# Altium schematic symbol library CustomizedLib.SchLib: 19 symbols
Pins are listed as number, name and electrical type; pins without a type are passive.

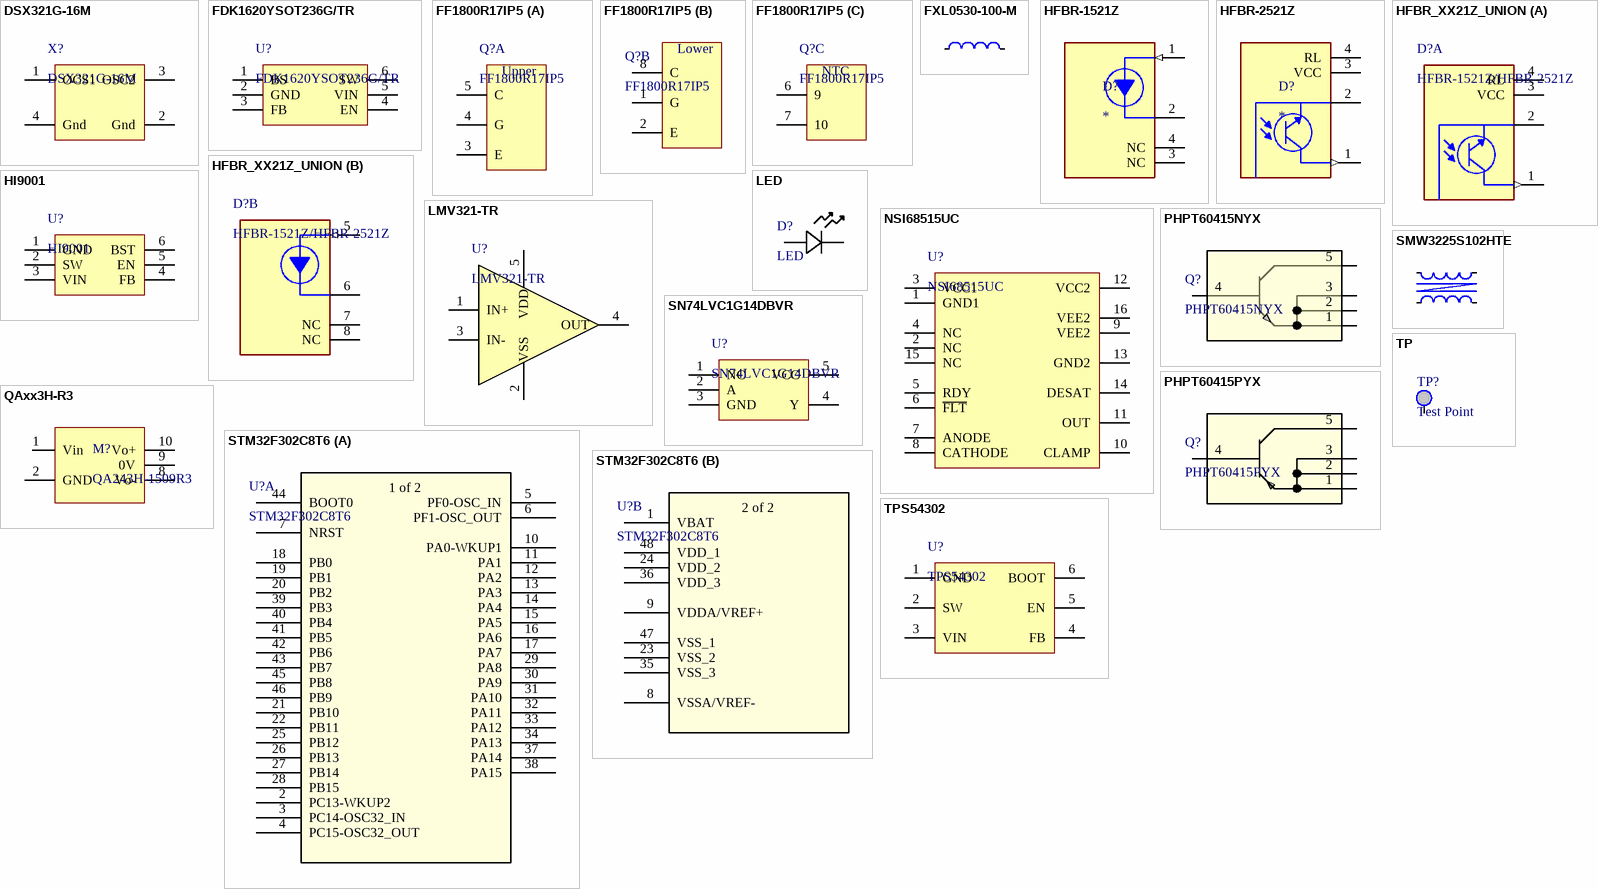
[diagram p0: symbols DSX321G-16M to TPS54302]

## DSX321G-16M
designator X?
无源晶振
footprint SMD3225-4 (Diode, Dual Flat No-Lead, 0.75 mm Pitch, 4 pin; 1.20 mm L X 0.775 mm W X 0.40 mm H body)
pins: 1 OCS1, 2 Gnd, 3 OSC2, 4 Gnd

## FDK1620YSOT236G/TR
designator U?
DC/DC Converter
footprint SOT23-6 (Small Outline Transistor, SOT-23 Type, 0.95 mm pitch; 6 pin, 2.92 mm L X 1.60 mm W X 1.25 mm H body)
pins: 1 BS, 2 GND, 3 FB, 4 EN, 5 VIN, 6 SW

## FF1800R17IP5
designator Q?
IGBT Module
footprint FF1800R17IP5
part A pins: 3 E, 4 G, 5 C
part B pins: 1 G, 2 E, 8 C
part C pins: 6 9, 7 10
part A text: Upper
part B text: Lower
part C text: NTC

## FXL0530-100-M
designator L?, comment 10uH  (value not drawn)
Manufacturer: cjiang(长江微电); Symbol: FXL0530-100-M; Add into BOM: yes; Tolerance: ±20%; Rated Current: 3.2A; Saturation Current (Isat): 3.5A; DC Resistance (DCR): 125mΩ; Type: 一体成型电感; Device: FXL0530-100-M; LCSC Part Name: 10uH ±20% 3.5A; Supplier Part: C177248; Manufacturer Part: FXL0530-100-M; Supplier Footprint: SMD,5.2x5.4mm; JLCPCB Part Class: Extended Part; Datasheet: https://atta.szlcsc.com/upload/public/pdf/source/20240426/3189EA8206330E2108542F9E34E540E7.pdf; Supplier: LCSC; Convert to PCB: yes; Value: 10uH
footprint L0530 (Diode, Dual Flat No-Lead, 2 pin; 1.00 mm L X 0.60 mm W X 0.50 mm H body)
pins: 1, 2

## HFBR-1521Z
designator D?
Versatile Link Fiber-Optic Connection; MF: Broadcom Limited; MP: HFBR-2521Z; SnapEDA_Link: https://www.snapeda.com/parts/HFBR-2521Z/Broadcom/view-part/?ref=snap; Package: None; Value: *; Check_prices: https://www.snapeda.com/parts/HFBR-2521Z/Broadcom/view-part/?ref=eda
footprint HFBR_1521Z (Footprint not found)
pins: 1 VO (in), 2 GROUND (power), 3 NC (power), 4 NC

## HFBR-2521Z
designator D?
Versatile Link Fiber-Optic Connection; MF: Broadcom Limited; MP: HFBR-2521Z; SnapEDA_Link: https://www.snapeda.com/parts/HFBR-2521Z/Broadcom/view-part/?ref=snap; Package: None; Value: *; Check_prices: https://www.snapeda.com/parts/HFBR-2521Z/Broadcom/view-part/?ref=eda
footprint HFBR_2521Z (Footprint not found)
pins: 1 VO (out), 2 GROUND (power), 3 VCC (power), 4 RL

## HFBR_XX21Z_UNION
designator D?, comment HFBR-1521Z/HFBR-2521Z
Versatile Link Fiber-Optic Connection
footprint HFBR_XX21Z_UNION
part A pins: 1 VO (out), 2 GROUND (power), 3 VCC (power), 4 RL
part B pins: 5 VO (in), 6 GROUND (power), 7 NC, 8 NC (power)

## HI9001
designator U?
DC/DC converter controller
footprint SOT23-6 (Small Outline Transistor, SOT-23 Type, 0.95 mm pitch; 3 pin, 2.90 mm L X 1.30 mm W X 1.10 mm H body)
pins: 1 GND, 2 SW, 3 VIN, 4 FB, 5 EN, 6 BST

## LED
designator D?
No Description Available; Manufacturer_Name: ams OSRAM; Manufacturer_Part_Number: LSQ976; Copyright: Copyright (C) 2025 Ultra Librarian. All rights reserved.
footprint LED_LSQ976_OSR
pins: 1, 2

## LMV321-TR
designator U?
轨到轨运算放大器
footprint SOT23-5P95_292X280X125L45X40N (Small Outline Transistor, SOT-23 Type, 0.95 mm pitch; 5 pin, 2.92 mm L X 1.60 mm W X 1.25 mm H body)
pins: 1 IN+, 2 VSS, 3 IN-, 4 OUT, 5 VDD

## NSI68515UC
designator U?
Driver IC
footprint SOIC16P127_1030X1030X265L70X39N (Small Outline IC (SOIC), 1.27 mm pitch; 16 pin, 10.30 mm L X 7.50 mm W X 2.65 mm H body)
pins: 1 GND1, 2 NC, 3 VCC1, 4 NC, 5 RDY, 6 ~{FLT}, 7 ANODE, 8 CATHODE, 9 VEE2, 10 CLAMP, 11 OUT, 12 VCC2, 13 GND2, 14 DESAT, 15 NC, 16 VEE2

## PHPT60415NYX
designator Q?
No Description Available; Manufacturer_Name: Nexperia; Manufacturer_Part_Number: PHPT60410NYX; Type: Transistors; Copyright: Copyright (C) 2025 Ultra Librarian. All rights reserved.; RefDes: RefDes
footprint LFPAK56_SOT669_NEX (Footprint not found)
pins: 1 EMITTER, 2 EMITTER, 3 EMITTER, 4 BASE, 5 COLLECTOR

## PHPT60415PYX
designator Q?
No Description Available; Manufacturer_Name: Nexperia; Type: Transistors; Copyright: Copyright (C) 2025 Ultra Librarian. All rights reserved.; Manufacturer_Part_Number: PHPT60415PYX; RefDes: RefDes
footprint LFPAK56_SOT669_NEX
pins: 1 EMITTER, 2 EMITTER, 3 EMITTER, 4 BASE, 5 COLLECTOR

## QAxx3H-R3
designator M?, comment QA243H-1509R3
IN=24VDC, OUT=+15VDC/-9VDC
footprint QAxx3H-R3 ((V1))
pins: 1 Vin, 2 GND, 8 Vo-, 9 0V, 10 Vo+

## SMW3225S102HTE
designator L?  (value not drawn)
1.2A; Manufacturer: cjiang(长江微电); Symbol: FXL0530-100-M; Add into BOM: yes; Value: 10uH; Tolerance: ±20%; Rated Current: 3.2A; Saturation Current (Isat): 3.5A; DC Resistance (DCR): 125mΩ; Type: 一体成型电感; Device: FXL0530-100-M; LCSC Part Name: 10uH ±20% 3.5A; Supplier Part: C177248; Manufacturer Part: FXL0530-100-M; Supplier Footprint: SMD,5.2x5.4mm; JLCPCB Part Class: Extended Part; Datasheet: https://atta.szlcsc.com/upload/public/pdf/source/20240426/3189EA8206330E2108542F9E34E540E7.pdf; Supplier: LCSC; Convert to PCB: yes
footprint INDDFN4_320X250X240L65X80N (Inductor, Dual Flat No-Lead (DFN) 4 pins, 2.55 mm pitch; 3.20 mm L X 2.50 mm W X 2.40 mm H body)
pins: 1, 2, 3, 4

## SN74LVC1G14DBVR
designator U?
Y=A\
footprint SOT23-5 (Small Outline Transistor, SOT-23 Type, 0.95 mm pitch; 5 pin, 2.90 mm L X 1.60 mm W X 1.45 mm H body)
pins: 1 NC, 2 A, 3 GND, 4 Y, 5 VCC

## STM32F302C8T6
designator U?
Mainstream Mixed signals MCUs Arm Cortex-M4 core with DSP and FPU, 64 Kbytes of Flash memory, 72 MHz CPU, 12-bit ADC 5 MSPS, Comparator, Op-Amp; Manufacturer_Name: STMicroelectronics; Copyright: Copyright (C) 2025 Ultra Librarian. All rights reserved.; Manufacturer_Part_Number: STM32F302C8T6; Datasheet: https://www.st.com/resource/en/datasheet/stm32f302r6.pdf; RefDes: RefDes; Type: Type
footprint LQFP48-7x7mm
part A pins: 2 PC13-WKUP2, 3 PC14-OSC32_IN, 4 PC15-OSC32_OUT, 5 PF0-OSC_IN, 6 PF1-OSC_OUT, 7 NRST, 10 PA0-WKUP1, 11 PA1, 12 PA2, 13 PA3, 14 PA4, 15 PA5, 16 PA6, 17 PA7, 18 PB0, 19 PB1, 20 PB2, 21 PB10, 22 PB11, 25 PB12, 26 PB13, 27 PB14, 28 PB15, 29 PA8, 30 PA9, 31 PA10, 32 PA11, 33 PA12, 34 PA13, 37 PA14, 38 PA15, 39 PB3, 40 PB4, 41 PB5, 42 PB6, 43 PB7, 44 BOOT0, 45 PB8, 46 PB9
part B pins: 1 VBAT (power), 8 VSSA/VREF- (power), 9 VDDA/VREF+ (power), 23 VSS_2 (power), 24 VDD_2 (power), 35 VSS_3 (power), 36 VDD_3 (power), 47 VSS_1 (power), 48 VDD_1 (power)
part A text: 1 of 2
part B text: 2 of 2

## TP
designator TP?, comment Test Point  (no BOM)
footprint TP
pins: 1

## TPS54302
designator U?
4.5V至28V输入、3A输出、EMI友好的同步降压转换器
footprint SOT23-6 (Small Outline Transistor, SOT-23 Type, 0.95 mm pitch; 6 pin, 2.92 mm L X 1.60 mm W X 1.25 mm H body)
pins: 1 GND, 2 SW, 3 VIN, 4 FB, 5 EN, 6 BOOT